# Altium footprint library 74HC00D,653.PcbLib: 1 footprints
Each footprint in its own frame and in the unit in brackets; x right, y up, seen from the top. Pads: shape width x height; smd on the part's side, far side on the other; paste and mask are expansions set on the pad; w line width, h text height; cw(c..) or ccw(c..) is an arc to the next point about the centre after c.
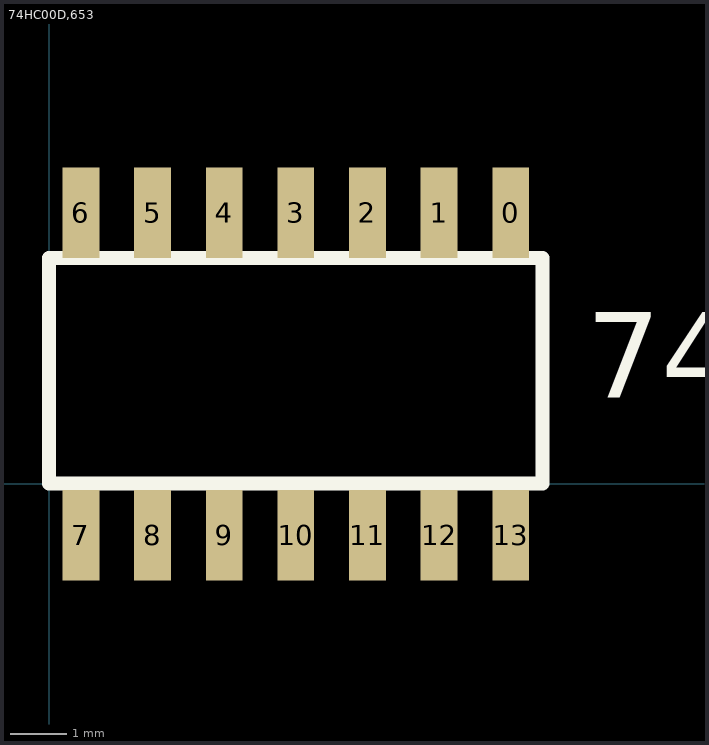
[diagram p0: the footprint, top view; thin cyan lines are the x and y axes]

## 74HC00D,653 [mm]
pads (14):
  rect 0.65x1.6 smd: 0(8.185,4.8) 1(6.915,4.8) 2(5.645,4.8) 3(4.375,4.8) 4(3.105,4.8) 5(1.835,4.8) 6(0.565,4.8) 7(0.565,-0.915) 8(1.835,-0.915) 9(3.105,-0.915) 10(4.375,-0.915) 11(5.645,-0.915) 12(6.915,-0.915) 13(8.185,-0.915)
Top Overlay:
  lines w0.254: 0,0 8.75,0 8.75,4 0,4 0,0
  text "74HC00D,653" at 9.525,1.524 h1.52